# EAGLE library part RFM12B-S2 (library ganges)
RFM12B-S2 Transceiver Module - Device
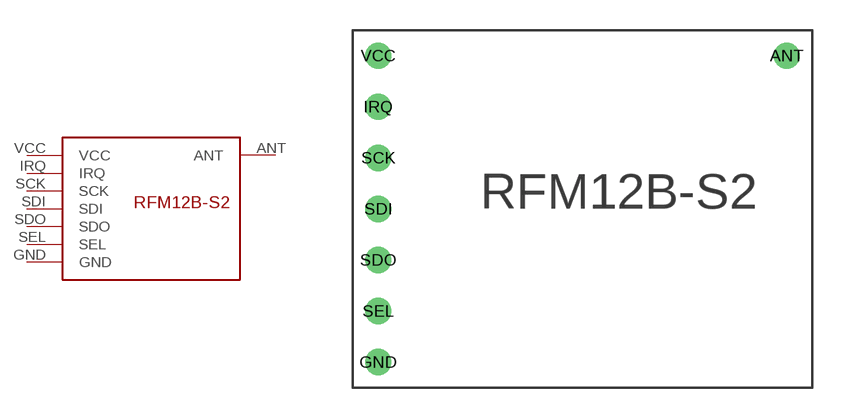
[diagram p3: symbol with the pads of RFM12B-S2; footprint RFM12B-S2]

Designator prefix -

## RFM12B-S2  [RFM12B-S2]
ANT  ANT
GND  GND
IRQ  IRQ
SCK  SCK
SDI  SDI
SDO  SDO
SEL  SEL
VCC  VCC

## Footprint RFM12B-S2 (pad centres in mm)
RFM12B-S2 Transceiver Module - Package
drill 0.8: ANT 21.59,16.51; GND 1.27,1.27; IRQ 1.27,13.97; SCK 1.27,11.43; SDI 1.27,8.89; SDO 1.27,6.35; SEL 1.27,3.81; VCC 1.27,16.51